# Altium schematic symbol library PCM1794.SchLib: 1 symbol
Pins are listed as number, name and electrical type; pins without a type are passive.

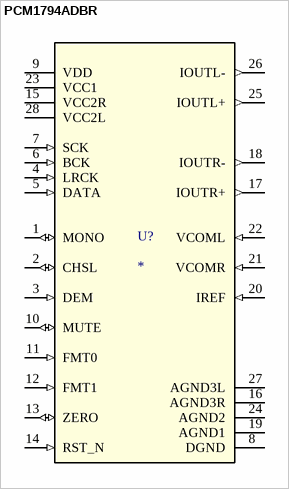
[diagram p0: symbol PCM1794ADBR]

## PCM1794ADBR
designator U?
Imported; PartNumber: PCM1794ADBR; Manufacturer: Texas Instruments; RefDes: RefDes; TYPE: TYPE; Value: Value
footprint DB0028A_L
footprint DB0028A_M
footprint DB0028A_N
pins: 1 MONO (io), 2 CHSL (io), 3 DEM (in), 4 LRCK (in), 5 DATA (in), 6 BCK (in), 7 SCK (in), 8 DGND (power), 9 VDD (power), 10 MUTE (io), 11 FMT0 (in), 12 FMT1 (in), 13 ZERO (io), 14 RST_N (in), 15 VCC2R (power), 16 AGND3R (power), 17 IOUTR+ (out), 18 IOUTR- (out), 19 AGND1 (power), 20 IREF (in), 21 VCOMR (in), 22 VCOML (in), 23 VCC1 (power), 24 AGND2 (power), 25 IOUTL+ (out), 26 IOUTL- (out), 27 AGND3L (power), 28 VCC2L (power)